# EAGLE library part ST3232BTR (library ST3232BTR)
ST3232BTR, Line Transceiver, EIA/TIA-232, RS-232, V.24, V.28 2-TX 2-RX 2-TRX, 3.3 V, 5 V, 16-Pin TSSOP Source: Datasheet <https://www.st.com/resource/en/datasheet/st3232b.pdf>
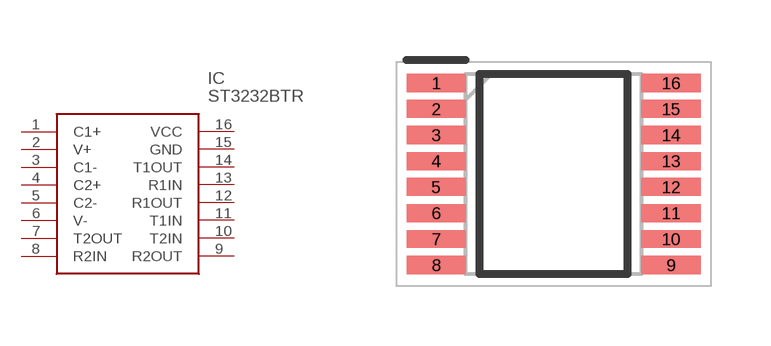
[diagram p0: symbol with the pads of SOP65P640X120-16N; footprint SOP65P640X120-16N]

Designator prefix IC

## ST3232BTR (Description: ST3232BTR, Line Transceiver, EIA/TIA-232, RS-232, V.24, V.28 2-TX 2-RX 2-TRX, 3.3 V, 5 V, 16-Pin TSSOP; Height: 1.2mm; Manufacturer_Name: STMicroelectronics; Manufacturer_Part_Number: ST3232BTR; Mouser_Part_Number: 511-ST3232BT; Mouser_Price-Stock: https://www.mouser.co.uk/ProductDetail/STMicroelectronics/ST3232BTR?qs=ASaMQXpZW6I31pVVZgI0ww%3D%3D)  [SOP65P640X120-16N]
1  C1+
2  V+
3  C1-
4  C2+
5  C2-
6  V-
7  T2OUT
8  R2IN
9  R2OUT
10  T2IN
11  T1IN
12  R1OUT
13  R1IN
14  T1OUT
15  GND
16  VCC

## Footprint SOP65P640X120-16N (pad centres in mm)
TSSOP-16
smd 1.48 x 0.45: 1 -2.935,2.275; 2 -2.935,1.625; 3 -2.935,0.975; 4 -2.935,0.325; 5 -2.935,-0.325; 6 -2.935,-0.975; 7 -2.935,-1.625; 8 -2.935,-2.275; 9 2.935,-2.275; 10 2.935,-1.625; 11 2.935,-0.975; 12 2.935,-0.325; 13 2.935,0.325; 14 2.935,0.975; 15 2.935,1.625; 16 2.935,2.275